# Altium schematic symbol library NES_Connector.SchLib: 1 symbol
Pins are listed as number, name and electrical type; pins without a type are passive.

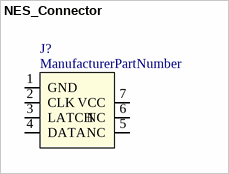
[diagram p0: symbol NES_Connector]

## NES_Connector
designator J?
ManufacturerPartNumber: ManufacturerPartNumber
pins: 1 GND, 2 CLK, 3 LATCH, 4 DATA, 5 NC, 6 NC, 7 VCC